# EAGLE library part MAX14850AEE+ (library Softgalaxy Pi HAT Lib-Eagle)
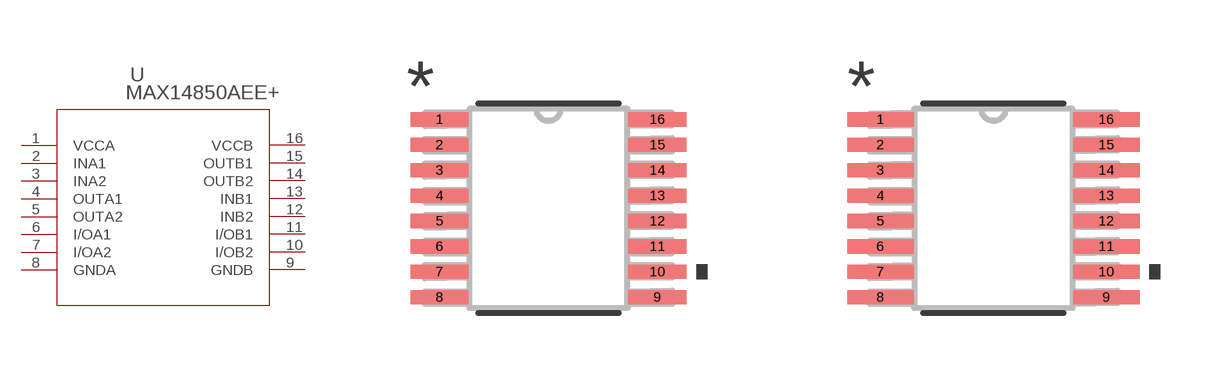
[diagram p8: symbol with the pads of 21-0055H_16_MXM; footprints 21-0055H_16_MXM, 21-0055H_16_MXM-M]

Designator prefix U

## MAX14850AEE+ (COPYRIGHT: Copyright (C) 2021 Ultra Librarian. All rights reserved.; DIGI-KEY_PART_NUMBER_1: MAX14850AEE+-ND; MANUFACTURER_PART_NUMBER: MAX14850AEE+; MFR_NAME: Maxim Integrated Products)  [21-0055H_16_MXM]
1  VCCA  pwr
2  INA1
3  INA2
4  OUTA1  out
5  OUTA2  out
6  I/OA1
7  I/OA2
8  GNDA  pas
9  GNDB  pas
10  I/OB2
11  I/OB1
12  INB2
13  INB1
14  OUTB2  out
15  OUTB1  out
16  VCCB  pwr

## MAX14850AEE+21-0055H_16_MXM-M (COPYRIGHT: Copyright (C) 2021 Ultra Librarian. All rights reserved.; DIGI-KEY_PART_NUMBER_1: MAX14850AEE+-ND; MANUFACTURER_PART_NUMBER: MAX14850AEE+; MFR_NAME: Maxim Integrated Products)  [21-0055H_16_MXM-M]
Pads as for 21-0055H_16_MXM

## MAX14850AEE+21-0055H_16_MXM-L (COPYRIGHT: Copyright (C) 2021 Ultra Librarian. All rights reserved.; DIGI-KEY_PART_NUMBER_1: MAX14850AEE+-ND; MANUFACTURER_PART_NUMBER: MAX14850AEE+; MFR_NAME: Maxim Integrated Products)  [21-0055H_16_MXM-L]
Pads as for 21-0055H_16_MXM

## Footprint 21-0055H_16_MXM (pad centres in mm)
smd 1.46 x 0.356: 1 -2.724,2.223; 2 -2.724,1.587; 3 -2.724,0.953; 4 -2.724,0.318; 5 -2.724,-0.318; 6 -2.724,-0.953; 7 -2.724,-1.587; 8 -2.724,-2.223; 9 2.724,-2.223; 10 2.724,-1.587; 11 2.724,-0.953; 12 2.724,-0.318; 13 2.724,0.318; 14 2.724,0.953; 15 2.724,1.587; 16 2.724,2.223

## Footprint 21-0055H_16_MXM-M (pad centres in mm)
smd 1.664 x 0.356: 1 -2.826,2.223; 2 -2.826,1.587; 3 -2.826,0.953; 4 -2.826,0.318; 5 -2.826,-0.318; 6 -2.826,-0.953; 7 -2.826,-1.587; 8 -2.826,-2.223; 9 2.826,-2.223; 10 2.826,-1.587; 11 2.826,-0.953; 12 2.826,-0.318; 13 2.826,0.318; 14 2.826,0.953; 15 2.826,1.587; 16 2.826,2.223

## Footprint 21-0055H_16_MXM-L (pad centres in mm)
smd 1.257 x 0.305: 1 -2.623,2.223; 2 -2.623,1.587; 3 -2.623,0.953; 4 -2.623,0.318; 5 -2.623,-0.318; 6 -2.623,-0.953; 7 -2.623,-1.587; 8 -2.623,-2.223; 9 2.623,-2.223; 10 2.623,-1.587; 11 2.623,-0.953; 12 2.623,-0.318; 13 2.623,0.318; 14 2.623,0.953; 15 2.623,1.587; 16 2.623,2.223